# Altium footprint library BSPO.PcbLib: 178 footprints (part 8 of 12)
Each footprint in its own frame and in the unit in brackets; x right, y up, seen from the top. Pads: shape width x height; smd on the part's side, far side on the other; paste and mask are expansions set on the pad; w line width, h text height; cw(c..) or ccw(c..) is an arc to the next point about the centre after c.
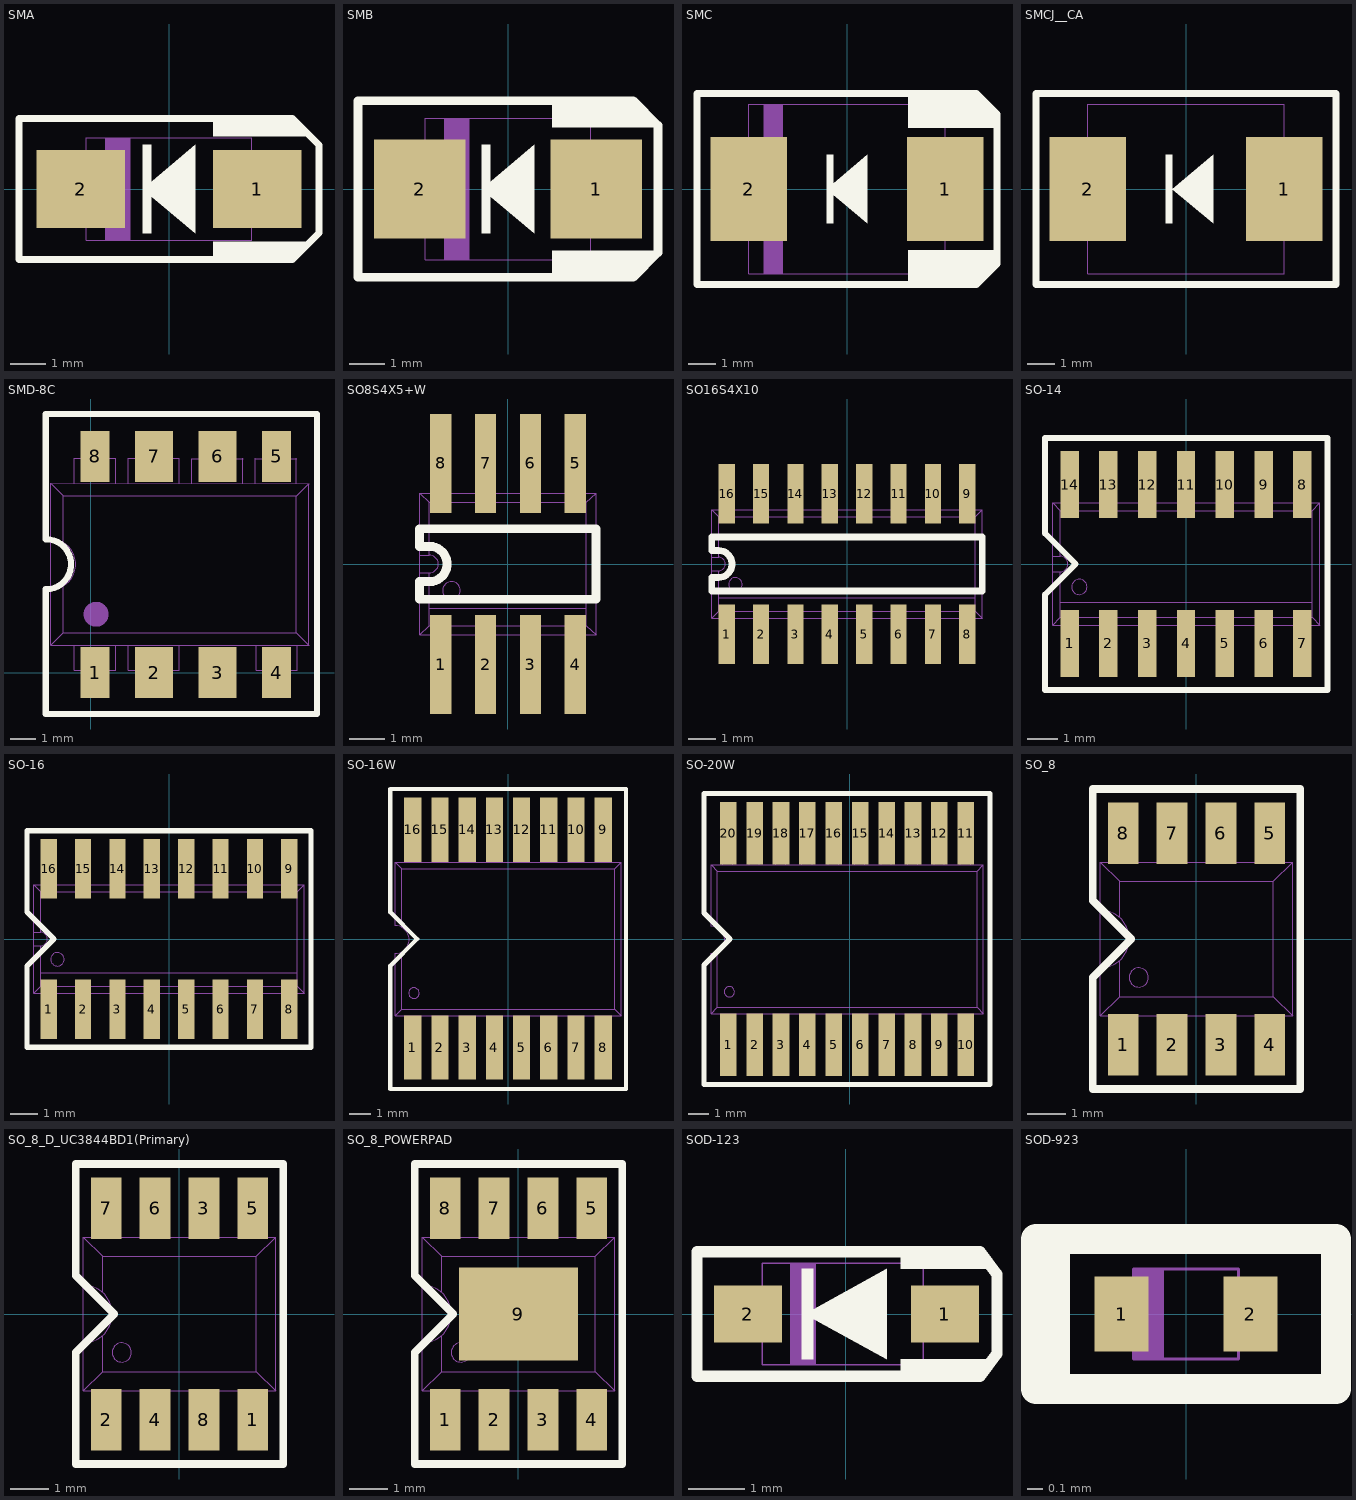
[diagram p7: the footprints below, top view; thin cyan lines are the x and y axes]

## SMA [mm]
pads (2):
  rect 2.5x2.2 smd: 1(2.5,0) 2(-2.5,0)
Top Overlay:
  region: -0.75,0 0.75,-1.25 0.75,1.25
  region: -0.75,1.25 -0.75,-1.25 -0.5,-1.25 -0.5,1.25
  region: 1.25,2 1.25,1.5 4,1.5 3.5,2
  region: 3.5,-2 4,-1.5 1.25,-1.5 1.25,-2
  lines w0.2: -4.25,-2 3.5,-2 4.25,-1.25 4.25,1.25 3.5,2 -4.25,2 -4.25,-2
Mechanical 1:
  region: -1.1,-1.45 -1.1,1.45 -1.8,1.45 -1.8,-1.45
  lines w0.025: -2.35,-0.8 -2.8,-0.8 -2.8,0.8 -2.35,0.8 ; 2.35,-0.8 2.8,-0.8 2.8,0.8 2.35,0.8 ; -2.35,-1.45 2.35,-1.45 2.35,1.45 -2.35,1.45 -2.35,-1.45

## SMB [mm]
pads (2):
  rect 2.6x2.8 smd: 1(2.5,0) 2(-2.5,0)
Top Overlay:
  region: -0.75,0 0.75,-1.25 0.75,1.25
  region: -0.75,1.25 -0.75,-1.25 -0.5,-1.25 -0.5,1.25
  region: 3.5,2.5 3.5,1.75 4.25,1.75
  region: 1.25,2.5 1.25,1.75 3.5,1.75 3.5,2.5
  region: 4.25,-1.75 3.5,-1.75 3.5,-2.5
  region: 3.5,-2.5 3.5,-1.75 1.25,-1.75 1.25,-2.5
  lines w0.25: -4.25,-2.5 3.55,-2.5 4.25,-1.8 4.25,1.8 3.55,2.5 -4.25,2.5 -4.25,-2.5
Mechanical 1:
  region: -1.1,-2 -1.1,2 -1.8,2 -1.8,-2
  lines w0.025: -2.35,-1.1 -2.8,-1.1 -2.8,1.1 -2.35,1.1 ; 2.35,-1.1 2.8,-1.1 2.8,1.1 2.35,1.1 ; -2.35,-2 2.35,-2 2.35,2 -2.35,2 -2.35,-2

## SMC [mm]
pads (2):
  rect 2.8x3.8 smd: 1(3.6,0) 2(-3.6,0)
Top Overlay:
  region: 2.25,-3.5 2.25,-2.25 5.5,-2.25 5.5,-2.75 4.75,-3.5
  region: 2.25,3.5 2.25,2.25 5.5,2.25 5.5,2.75 4.75,3.5
  region: 0.75,1.25 0.75,-1.25 -0.75,0
  region: -0.5,1.25 -0.5,-1.25 -0.75,-1.25 -0.75,1.25
  lines w0.25: -5.5,-3.5 4.75,-3.5 5.5,-2.75 5.5,2.75 4.75,3.5 -5.5,3.5 -5.5,-3.5
Mechanical 1:
  region: -3.05,-3.1 -3.05,3.1 -2.35,3.1 -2.35,-3.1
  lines w0.025: -3.6,-1.6 -4.05,-1.6 -4.05,1.6 -3.6,1.6 ; 3.6,-1.6 4.05,-1.6 4.05,1.6 3.6,1.6 ; -3.6,-3.1 3.6,-3.1 3.6,3.1 -3.6,3.1 -3.6,-3.1

## SMCJ__CA [mm]
pads (2):
  rect 2.8x3.8 smd: 1(3.6,0) 2(-3.6,0)
Top Overlay:
  region: 0.99,1.25 0.99,-1.25 -0.51,0
  region: -0.5,1.25 -0.5,-1.25 -0.75,-1.25 -0.75,1.25
  lines w0.25: -5.5,-3.5 5.5,-3.5 5.5,3.5 -5.5,3.5 -5.5,-3.5
Mechanical 1:
  lines w0.025: -3.6,-1.6 -4.05,-1.6 -4.05,1.6 -3.6,1.6 ; 3.6,-1.6 4.05,-1.6 4.05,1.6 3.6,1.6 ; -3.6,-3.1 3.6,-3.1 3.6,3.1 -3.6,3.1 -3.6,-3.1

## SMD-8C [mm]
pads (8):
  rect 1.16x2.03 smd: 1(0.18,0) 4(7.44,0) 5(7.44,8.64) 8(0.18,8.64)
  rect 1.52x2.03 smd: 2(2.54,0) 3(5.08,0) 6(5.08,8.64) 7(2.54,8.64)
Top Overlay:
  lines w0.25: -1.801,5.33 cw(c-1.785,4.33) -1.785,3.33 ; -1.8,3.34 -1.8,-1.66 9.05,-1.66 9.05,10.34 -1.8,10.34 -1.8,5.34
Mechanical 1:
  circle w0.5: c0.215,2.33 r0.25
  lines w0.025: -1.6,3.33 ccw(c-1.6,4.33) -1.6,5.33 ; -1.1,3.464 -1.1,1.595 ; -1.1,5.196 -1.1,7.065 ; -0.65,1.095 -0.65,0.098 1,0.098 1,1.095 ; -0.65,7.565 -0.65,8.562 ; -0.645,8.56 1.005,8.56 ; 1,7.565 1,8.562 ; 1.51,0.098 1.51,1.095 ; 1.51,0.1 3.54,0.098 3.54,1.095 ; 1.51,7.565 1.51,8.562 ; 1.51,8.56 3.53,8.56 ; 3.54,7.565 3.54,8.562 ; 4.04,7.565 4.04,8.55 6.095,8.55 ; 6.08,7.565 6.08,8.562 ; 6.575,8.55 8.245,8.55 ; 6.58,7.565 6.58,8.562 ; 6.62,1.095 6.62,0.098 8.27,0.098 8.27,1.095 ; 8.23,1.59 -1.1,1.595 ; 8.23,7.565 8.23,8.562 ; 8.24,7.06 -1.1,7.065 ; 8.74,1.1 -1.6,1.095 ; 8.74,7.55 -1.6,7.565 ; -1.6,1.095 -1.6,7.565 ; -1.6,1.095 -1.1,1.595 ; -1.6,7.565 -1.1,7.065 ; 8.23,1.585 8.23,7.055 8.73,7.555 8.73,1.085 8.23,1.585

## SO8S4X5+W [mm]
pads (8):
  rect 0.6x2.8 smd: 1(-1.9,-2.85) 2(-0.63,-2.85) 3(0.64,-2.85) 4(1.91,-2.85) 5(1.91,2.85) 6(0.64,2.85) 7(-0.63,2.85) 8(-1.9,2.85)
Top Overlay:
  lines w0.25: -2.5,-1 2.5,-1 2.5,1 -2.5,1 -2.5,0.5 -2.22,0.5 cw(c-2.22,0) -2.22,-0.5 -2.5,-0.5 -2.5,-1
Mechanical 1:
  circle w0.025: c-1.595,-0.75 r0.25
  lines w0.025: -2.5,-0.25 -2.22,-0.25 ; -2.5,0.25 -2.22,0.25 ; -2.22,-1.25 2.22,-1.25 ; -2.15,-2.35 -1.66,-2.35 ; -2.15,-2 -2.15,-3.1 -1.66,-3.1 -1.66,-2 ; -2.15,2 -2.15,3.1 -1.66,3.1 -1.66,2 ; -2.15,2.35 -1.66,2.35 ; -0.88,-2.35 -0.39,-2.35 ; -0.88,-2 -0.88,-3.1 -0.39,-3.1 -0.39,-2 ; -0.88,2 -0.88,3.1 -0.39,3.1 -0.39,2 ; -0.88,2.35 -0.39,2.35 ; 0.39,-2.35 0.88,-2.35 ; 0.39,-2 0.39,-3.1 0.88,-3.1 0.88,-2 ; 0.39,2 0.39,3.1 0.88,3.1 0.88,2 ; 0.39,2.35 0.88,2.35 ; 1.66,-2.35 2.15,-2.35 ; 1.66,-2 1.66,-3.1 2.15,-3.1 2.15,-2 ; 1.66,2 1.66,3.1 2.15,3.1 2.15,2 ; 1.66,2.35 2.15,2.35 ; -2.5,-2 2.5,-2 ; -2.5,-2 -2.5,2 ; -2.5,-2 -2.22,-1.75 ; -2.5,2 2.5,2 ; -2.5,2 -2.22,1.75 ; -2.5,2 -2.22,1.75 ; -2.22,-1.75 2.22,-1.75 ; -2.22,-1.75 -2.22,-0.25 ; -2.22,-0.25 ccw(c-2.22,0) -2.22,0.25 ; -2.22,0.25 -2.22,1.75 ; -2.22,1.75 2.22,1.75 ; 2.22,-1.75 2.22,1.75 ; 2.22,-1.75 2.5,-2 ; 2.22,1.75 2.5,2 ; 2.5,-2 2.5,2

## SO16S4X10 [mm]
pads (16):
  rect 0.6x2.2 smd: 1(-4.445,-2.6) 2(-3.175,-2.6) 3(-1.905,-2.6) 4(-0.635,-2.6) 5(0.635,-2.6) 6(1.905,-2.6) 7(3.175,-2.6) 8(4.445,-2.6) 9(4.445,2.6) 10(3.175,2.6) 11(1.905,2.6) 12(0.635,2.6) 13(-0.635,2.6) 14(-1.905,2.6) 15(-3.175,2.6) 16(-4.445,2.6)
Top Overlay:
  lines w0.25: -5,-1 5,-1 5,1 -5,1 -5,0.5 -4.75,0.5 cw(c-4.75,0) -4.75,-0.5 -5,-0.5 -5,-1
Mechanical 1:
  circle w0.025: c-4.125,-0.75 r0.25
  lines w0.025: -5,-0.25 -4.75,-0.25 ; -5,0.25 -4.75,0.25 ; -4.75,-1.25 4.75,-1.25 ; -4.69,-2.35 -4.2,-2.35 ; -4.69,-2 -4.69,-3.1 -4.2,-3.1 -4.2,-2 ; -4.69,2 -4.69,3.1 -4.2,3.1 -4.2,2 ; -4.69,2.35 -4.2,2.35 ; -3.42,-2.35 -2.93,-2.35 ; -3.42,-2 -3.42,-3.1 -2.93,-3.1 -2.93,-2 ; -3.42,2 -3.42,3.1 -2.93,3.1 -2.93,2 ; -3.42,2.35 -2.93,2.35 ; -2.15,-2.35 -1.66,-2.35 ; -2.15,-2 -2.15,-3.1 -1.66,-3.1 -1.66,-2 ; -2.15,2 -2.15,3.1 -1.66,3.1 -1.66,2 ; -2.15,2.35 -1.66,2.35 ; -0.88,-2.35 -0.39,-2.35 ; -0.88,-2 -0.88,-3.1 -0.39,-3.1 -0.39,-2 ; -0.88,2 -0.88,3.1 -0.39,3.1 -0.39,2 ; -0.88,2.35 -0.39,2.35 ; 0.39,-2.35 0.88,-2.35 ; 0.39,-2 0.39,-3.1 0.88,-3.1 0.88,-2 ; 0.39,2 0.39,3.1 0.88,3.1 0.88,2 ; 0.39,2.35 0.88,2.35 ; 1.66,-2.35 2.15,-2.35 ; 1.66,-2 1.66,-3.1 2.15,-3.1 2.15,-2 ; 1.66,2 1.66,3.1 2.15,3.1 2.15,2 ; 1.66,2.35 2.15,2.35 ; 2.93,-2.35 3.42,-2.35 ; 2.93,-2 2.93,-3.1 3.42,-3.1 3.42,-2 ; 2.93,2 2.93,3.1 3.42,3.1 3.42,2 ; 2.93,2.35 3.42,2.35 ; 4.2,-2.35 4.69,-2.35 ; 4.2,-2 4.2,-3.1 4.69,-3.1 4.69,-2 ; 4.2,2 4.2,3.1 4.69,3.1 4.69,2 ; 4.2,2.35 4.69,2.35 ; -5,-2 5,-2 ; -5,-2 -5,2 ; -5,-2 -4.75,-1.75 ; -5,2 5,2 ; -5,2 -4.75,1.75 ; -5,2 -4.75,1.75 ; -4.75,-1.75 4.75,-1.75 ; -4.75,-1.75 -4.75,-0.25 ; -4.75,-0.25 ccw(c-4.75,0) -4.75,0.25 ; -4.75,0.25 -4.75,1.75 ; -4.75,1.75 4.75,1.75 ; 4.75,-1.75 4.75,1.75 ; 4.75,-1.75 5,-2 ; 4.75,1.75 5,2 ; 5,-2 5,2

## SO-14 [mm]
pads (14):
  rect 0.6x2.2 smd: 1(-3.82,-2.6) 2(-2.55,-2.6) 3(-1.28,-2.6) 4(-0.01,-2.6) 5(1.26,-2.6) 6(2.53,-2.6) 7(3.8,-2.6) 8(3.8,2.6) 9(2.53,2.6) 10(1.26,2.6) 11(-0.01,2.6) 12(-1.28,2.6) 13(-2.55,2.6) 14(-3.82,2.6)
Top Overlay:
  lines w0.2: -4.625,-4.125 4.625,-4.125 4.625,4.125 -4.625,4.125 -4.625,1 -3.625,0 -4.625,-1 -4.625,-4.125
Mechanical 1:
  circle w0.025: c-3.5,-0.75 r0.25
  lines w0.025: -4.375,-0.25 -4.125,-0.25 ; -4.375,0.25 -4.125,0.25 ; -4.125,-1.25 4.125,-1.25 ; -4.065,-2.35 -3.575,-2.35 ; -4.065,-2 -4.065,-3.1 -3.575,-3.1 -3.575,-2 ; -4.065,2 -4.065,3.1 -3.575,3.1 -3.575,2 ; -4.065,2.35 -3.575,2.35 ; -2.795,-2.35 -2.305,-2.35 ; -2.795,-2 -2.795,-3.1 -2.305,-3.1 -2.305,-2 ; -2.795,2 -2.795,3.1 -2.305,3.1 -2.305,2 ; -2.795,2.35 -2.305,2.35 ; -1.525,-2.35 -1.035,-2.35 ; -1.525,-2 -1.525,-3.1 -1.035,-3.1 -1.035,-2 ; -1.525,2 -1.525,3.1 -1.035,3.1 -1.035,2 ; -1.525,2.35 -1.035,2.35 ; -0.255,-2.35 0.235,-2.35 ; -0.255,-2 -0.255,-3.1 0.235,-3.1 0.235,-2 ; -0.255,2 -0.255,3.1 0.235,3.1 0.235,2 ; -0.255,2.35 0.235,2.35 ; 1.015,-2.35 1.505,-2.35 ; 1.015,-2 1.015,-3.1 1.505,-3.1 1.505,-2 ; 1.015,2 1.015,3.1 1.505,3.1 1.505,2 ; 1.015,2.35 1.505,2.35 ; 2.285,-2.35 2.775,-2.35 ; 2.285,-2 2.285,-3.1 2.775,-3.1 2.775,-2 ; 2.285,2 2.285,3.1 2.775,3.1 2.775,2 ; 2.285,2.35 2.775,2.35 ; 3.555,-2.35 4.045,-2.35 ; 3.555,-2 3.555,-3.1 4.045,-3.1 4.045,-2 ; 3.555,2 3.555,3.1 4.045,3.1 4.045,2 ; 3.555,2.35 4.045,2.35 ; -4.375,-2 4.375,-2 ; -4.375,-2 -4.375,2 ; -4.375,-2 -4.125,-1.75 ; -4.375,2 4.375,2 ; -4.375,2 -4.125,1.75 ; -4.375,2 -4.125,1.75 ; -4.125,-1.75 4.125,-1.75 ; -4.125,-1.75 -4.125,-0.25 ; -4.125,-0.25 ccw(c-4.125,0) -4.125,0.25 ; -4.125,0.25 -4.125,1.75 ; -4.125,1.75 4.125,1.75 ; 4.125,-1.75 4.125,1.75 ; 4.125,-1.75 4.375,-2 ; 4.125,1.75 4.375,2 ; 4.375,-2 4.375,2

## SO-16 [mm]
pads (16):
  rect 0.6x2.2 smd: 1(-4.445,-2.6) 2(-3.175,-2.6) 3(-1.905,-2.6) 4(-0.635,-2.6) 5(0.635,-2.6) 6(1.905,-2.6) 7(3.175,-2.6) 8(4.445,-2.6) 9(4.445,2.6) 10(3.175,2.6) 11(1.905,2.6) 12(0.635,2.6) 13(-0.635,2.6) 14(-1.905,2.6) 15(-3.175,2.6) 16(-4.445,2.6)
Top Overlay:
  lines w0.2: -5.25,-4 5.25,-4 5.25,4 -5.25,4 -5.25,1 -4.25,0 -5.25,-1 -5.25,-4
Mechanical 1:
  circle w0.025: c-4.125,-0.75 r0.25
  lines w0.025: -5,-0.25 -4.75,-0.25 ; -5,0.25 -4.75,0.25 ; -4.75,-1.25 4.75,-1.25 ; -4.69,-2.35 -4.2,-2.35 ; -4.69,-2 -4.69,-3.1 -4.2,-3.1 -4.2,-2 ; -4.69,2 -4.69,3.1 -4.2,3.1 -4.2,2 ; -4.69,2.35 -4.2,2.35 ; -3.42,-2.35 -2.93,-2.35 ; -3.42,-2 -3.42,-3.1 -2.93,-3.1 -2.93,-2 ; -3.42,2 -3.42,3.1 -2.93,3.1 -2.93,2 ; -3.42,2.35 -2.93,2.35 ; -2.15,-2.35 -1.66,-2.35 ; -2.15,-2 -2.15,-3.1 -1.66,-3.1 -1.66,-2 ; -2.15,2 -2.15,3.1 -1.66,3.1 -1.66,2 ; -2.15,2.35 -1.66,2.35 ; -0.88,-2.35 -0.39,-2.35 ; -0.88,-2 -0.88,-3.1 -0.39,-3.1 -0.39,-2 ; -0.88,2 -0.88,3.1 -0.39,3.1 -0.39,2 ; -0.88,2.35 -0.39,2.35 ; 0.39,-2.35 0.88,-2.35 ; 0.39,-2 0.39,-3.1 0.88,-3.1 0.88,-2 ; 0.39,2 0.39,3.1 0.88,3.1 0.88,2 ; 0.39,2.35 0.88,2.35 ; 1.66,-2.35 2.15,-2.35 ; 1.66,-2 1.66,-3.1 2.15,-3.1 2.15,-2 ; 1.66,2 1.66,3.1 2.15,3.1 2.15,2 ; 1.66,2.35 2.15,2.35 ; 2.93,-2.35 3.42,-2.35 ; 2.93,-2 2.93,-3.1 3.42,-3.1 3.42,-2 ; 2.93,2 2.93,3.1 3.42,3.1 3.42,2 ; 2.93,2.35 3.42,2.35 ; 4.2,-2.35 4.69,-2.35 ; 4.2,-2 4.2,-3.1 4.69,-3.1 4.69,-2 ; 4.2,2 4.2,3.1 4.69,3.1 4.69,2 ; 4.2,2.35 4.69,2.35 ; -5,-2 5,-2 ; -5,-2 -5,2 ; -5,-2 -4.75,-1.75 ; -5,2 5,2 ; -5,2 -4.75,1.75 ; -5,2 -4.75,1.75 ; -4.75,-1.75 4.75,-1.75 ; -4.75,-1.75 -4.75,-0.25 ; -4.75,-0.25 ccw(c-4.75,0) -4.75,0.25 ; -4.75,0.25 -4.75,1.75 ; -4.75,1.75 4.75,1.75 ; 4.75,-1.75 4.75,1.75 ; 4.75,-1.75 5,-2 ; 4.75,1.75 5,2 ; 5,-2 5,2

## SO-16W [mm]
pads (16):
  rect 0.8x3 smd: 1(-4.455,-5.065) 2(-3.185,-5.065) 3(-1.915,-5.065) 4(-0.645,-5.065) 5(0.625,-5.065) 6(1.895,-5.065) 7(3.165,-5.065) 8(4.435,-5.065) 9(4.435,5.095) 10(3.165,5.095) 11(1.895,5.095) 12(0.625,5.095) 13(-0.645,5.095) 14(-1.915,5.095) 15(-3.185,5.095) 16(-4.455,5.095)
Top Overlay:
  lines w0.2: -5.5,-7 5.5,-7 5.5,7 -5.5,7 -5.5,1.25 -4.25,0 -5.5,-1.25 -5.5,-7
Mechanical 1:
  circle w0.025: c-4.4,-2.525 r0.25
  lines w0.025: -4.975,-0.625 -4.975,-3.275 ; -4.975,0.575 -4.975,3.275 ; -4.715,-3.925 -4.225,-3.925 ; -4.715,-3.575 -4.715,-4.675 -4.225,-4.675 -4.225,-3.575 ; -4.715,3.575 -4.715,4.675 -4.225,4.675 -4.225,3.575 ; -4.715,3.925 -4.225,3.925 ; -3.445,-3.925 -2.955,-3.925 ; -3.445,-3.575 -3.445,-4.675 -2.955,-4.675 -2.955,-3.575 ; -3.445,3.575 -3.445,4.675 -2.955,4.675 -2.955,3.575 ; -3.445,3.925 -2.955,3.925 ; -2.175,-3.925 -1.685,-3.925 ; -2.175,-3.575 -2.175,-4.675 -1.685,-4.675 -1.685,-3.575 ; -2.175,3.575 -2.175,4.675 -1.685,4.675 -1.685,3.575 ; -2.175,3.925 -1.685,3.925 ; -0.905,-3.925 -0.415,-3.925 ; -0.905,-3.575 -0.905,-4.675 -0.415,-4.675 -0.415,-3.575 ; -0.905,3.575 -0.905,4.675 -0.415,4.675 -0.415,3.575 ; -0.905,3.925 -0.415,3.925 ; 0.365,-3.925 0.855,-3.925 ; 0.365,-3.575 0.365,-4.675 0.855,-4.675 0.855,-3.575 ; 0.365,3.575 0.365,4.675 0.855,4.675 0.855,3.575 ; 0.365,3.925 0.855,3.925 ; 1.635,-3.925 2.125,-3.925 ; 1.635,-3.575 1.635,-4.675 2.125,-4.675 2.125,-3.575 ; 1.635,3.575 1.635,4.675 2.125,4.675 2.125,3.575 ; 1.635,3.925 2.125,3.925 ; 2.905,-3.925 3.395,-3.925 ; 2.905,-3.575 2.905,-4.675 3.395,-4.675 3.395,-3.575 ; 2.905,3.575 2.905,4.675 3.395,4.675 3.395,3.575 ; 2.905,3.925 3.395,3.925 ; 4.175,-3.925 4.665,-3.925 ; 4.175,-3.575 4.175,-4.675 4.665,-4.675 4.665,-3.575 ; 4.175,3.575 4.175,4.675 4.665,4.675 4.665,3.575 ; 4.175,3.925 4.665,3.925 ; -5.275,-3.575 5.275,-3.575 ; -5.275,-3.575 -5.275,-0.675 ccw(c-5.275,-0.025) -5.275,0.625 -5.275,3.575 ; -5.275,-3.575 -4.975,-3.275 ; -5.275,3.575 5.275,3.575 ; -5.275,3.575 -4.975,3.275 ; -4.975,-3.275 4.975,-3.275 ; -4.975,3.275 4.975,3.275 ; 4.975,-3.275 4.975,3.275 ; 4.975,-3.275 5.275,-3.575 ; 4.975,3.275 5.275,3.575 ; 5.275,-3.575 5.275,3.575

## SO-20W [mm]
pads (20):
  rect 0.8x3 smd: 1(-5.842,-5.08) 2(-4.572,-5.08) 3(-3.302,-5.08) 4(-2.032,-5.08) 5(-0.762,-5.08) 6(0.508,-5.08) 7(1.778,-5.08) 8(3.048,-5.08) 9(4.318,-5.08) 10(5.588,-5.08) 11(5.588,5.08) 12(4.318,5.08) 13(3.048,5.08) 14(1.778,5.08) 15(0.508,5.08) 16(-0.762,5.08) 17(-2.032,5.08) 18(-3.302,5.08) 19(-4.572,5.08) 20(-5.842,5.08)
Top Overlay:
  lines w0.25: 6.738,7 -7,7 -7,1.25 -5.75,0 -7,-1.25 -7,-7 6.75,-7 6.75,7
Mechanical 1:
  circle w0.025: c-5.787,-2.54 r0.25
  lines w0.025: -6.362,-0.64 -6.362,-3.29 ; -6.362,0.56 -6.362,3.26 ; -6.102,-3.94 -5.612,-3.94 ; -6.102,-3.59 -6.102,-4.69 -5.612,-4.69 -5.612,-3.59 ; -6.102,3.56 -6.102,4.66 -5.612,4.66 -5.612,3.56 ; -6.102,3.91 -5.612,3.91 ; -4.832,-3.94 -4.342,-3.94 ; -4.832,-3.59 -4.832,-4.69 -4.342,-4.69 -4.342,-3.59 ; -4.832,3.56 -4.832,4.66 -4.342,4.66 -4.342,3.56 ; -4.832,3.91 -4.342,3.91 ; -3.562,-3.94 -3.072,-3.94 ; -3.562,-3.59 -3.562,-4.69 -3.072,-4.69 -3.072,-3.59 ; -3.562,3.56 -3.562,4.66 -3.072,4.66 -3.072,3.56 ; -3.562,3.91 -3.072,3.91 ; -2.292,-3.94 -1.802,-3.94 ; -2.292,-3.59 -2.292,-4.69 -1.802,-4.69 -1.802,-3.59 ; -2.292,3.56 -2.292,4.66 -1.802,4.66 -1.802,3.56 ; -2.292,3.91 -1.802,3.91 ; -1.022,-3.94 -0.532,-3.94 ; -1.022,-3.59 -1.022,-4.69 -0.532,-4.69 -0.532,-3.59 ; -1.022,3.56 -1.022,4.66 -0.532,4.66 -0.532,3.56 ; -1.022,3.91 -0.532,3.91 ; 0.248,-3.94 0.738,-3.94 ; 0.248,-3.59 0.248,-4.69 0.738,-4.69 0.738,-3.59 ; 0.248,3.56 0.248,4.66 0.738,4.66 0.738,3.56 ; 0.248,3.91 0.738,3.91 ; 1.518,-3.94 2.008,-3.94 ; 1.518,-3.59 1.518,-4.69 2.008,-4.69 2.008,-3.59 ; 1.518,3.56 1.518,4.66 2.008,4.66 2.008,3.56 ; 1.518,3.91 2.008,3.91 ; 2.788,-3.94 3.278,-3.94 ; 2.788,-3.59 2.788,-4.69 3.278,-4.69 3.278,-3.59 ; 2.788,3.56 2.788,4.66 3.278,4.66 3.278,3.56 ; 2.788,3.91 3.278,3.91 ; 4.058,-3.94 4.548,-3.94 ; 4.058,-3.59 4.058,-4.69 4.548,-4.69 4.548,-3.59 ; 4.058,3.56 4.058,4.66 4.548,4.66 4.548,3.56 ; 4.058,3.91 4.548,3.91 ; 5.328,-3.94 5.818,-3.94 ; 5.328,-3.59 5.328,-4.69 5.818,-4.69 5.818,-3.59 ; 5.328,3.56 5.328,4.66 5.818,4.66 5.818,3.56 ; 5.328,3.91 5.818,3.91 ; -6.662,-3.59 6.428,-3.59 ; -6.662,-3.59 -6.662,-0.69 ccw(c-6.662,-0.04) -6.662,0.61 -6.662,3.56 ; -6.662,-3.59 -6.362,-3.29 ; -6.662,3.56 6.428,3.56 ; -6.662,3.56 -6.362,3.26 ; -6.362,-3.29 -6.312,-3.29 6.128,-3.29 ; -6.362,3.26 6.128,3.26 ; 6.128,-3.29 6.128,3.26 ; 6.128,-3.29 6.428,-3.59 ; 6.128,3.26 6.428,3.56 ; 6.428,-3.59 6.428,3.56

## SO_8 [mm]
pads (8):
  rect 0.8x1.6 smd: 1(-1.905,-2.75) 2(-0.635,-2.75) 3(0.635,-2.75) 4(1.905,-2.75) 5(1.905,2.75) 6(0.635,2.75) 7(-0.635,2.75) 8(-1.905,2.75)
Top Overlay:
  lines w0.2: -2.7,-3.9 2.7,-3.9 2.7,3.9 -2.7,3.9 -2.7,1 -1.7,0 -2.7,-1 -2.7,-3.9
Mechanical 1:
  circle w0.02: c-1.5,-1 r0.25
  lines w0.02: -2.5,-0.75 ccw(c-2.5,0) -2.5,0.75 ; -2.16,2.35 -1.65,2.35 ; -2,-0.559 -2,-1.5 ; -2,0.559 -2,1.5 ; -0.89,2.35 -0.38,2.35 ; 0.38,2.35 0.89,2.35 ; 1.65,2.35 2.16,2.35 ; -2.5,-2 2.5,-2 ; -2.5,-2 -2.5,2 ; -2.5,-2 -2,-1.5 ; -2.5,2 2.5,2 ; -2.5,2 -2,1.5 ; -2,-1.5 2,-1.5 ; -2,1.5 2,1.5 ; 2,-1.5 2,1.5 ; 2,-1.5 2.5,-2 ; 2,1.5 2.5,2 ; 2.5,-2 2.5,2
  lines w0.025: -2.16,-2.35 -1.65,-2.35 ; -2.16,-2 -2.16,-3.1 -1.65,-3.1 -1.65,-2 ; -2.16,2 -2.16,3.1 -1.65,3.1 -1.65,2 ; -0.89,-2.35 -0.38,-2.35 ; -0.89,-2 -0.89,-3.1 -0.38,-3.1 -0.38,-2 ; -0.89,2 -0.89,3.1 -0.38,3.1 -0.38,2 ; 0.38,-2.35 0.89,-2.35 ; 0.38,-2 0.38,-3.1 0.89,-3.1 0.89,-2 ; 0.38,2 0.38,3.1 0.89,3.1 0.89,2 ; 1.65,-2.35 2.16,-2.35 ; 1.65,-2 1.65,-3.1 2.16,-3.1 2.16,-2 ; 1.65,2 1.65,3.1 2.16,3.1 2.16,2

## SO_8_D_UC3844BD1(Primary) [mm]
pads (8):
  rect 0.8x1.6 smd: 1(1.905,-2.75) 2(-1.905,-2.75) 3(0.635,2.75) 4(-0.635,-2.75) 5(1.905,2.75) 6(-0.635,2.75) 7(-1.905,2.75) 8(0.635,-2.75)
Top Overlay:
  lines w0.2: -2.7,-3.9 2.7,-3.9 2.7,3.9 -2.7,3.9 -2.7,1 -1.7,0 -2.7,-1 -2.7,-3.9
Mechanical 1:
  circle w0.02: c-1.5,-1 r0.25
  lines w0.02: -2.5,-0.75 ccw(c-2.5,0) -2.5,0.75 ; -2.16,2.35 -1.65,2.35 ; -2,-0.559 -2,-1.5 ; -2,0.559 -2,1.5 ; -0.89,2.35 -0.38,2.35 ; 0.38,2.35 0.89,2.35 ; 1.65,2.35 2.16,2.35 ; -2.5,-2 2.5,-2 ; -2.5,-2 -2.5,2 ; -2.5,-2 -2,-1.5 ; -2.5,2 2.5,2 ; -2.5,2 -2,1.5 ; -2,-1.5 2,-1.5 ; -2,1.5 2,1.5 ; 2,-1.5 2,1.5 ; 2,-1.5 2.5,-2 ; 2,1.5 2.5,2 ; 2.5,-2 2.5,2
  lines w0.025: -2.16,-2.35 -1.65,-2.35 ; -2.16,-2 -2.16,-3.1 -1.65,-3.1 -1.65,-2 ; -2.16,2 -2.16,3.1 -1.65,3.1 -1.65,2 ; -0.89,-2.35 -0.38,-2.35 ; -0.89,-2 -0.89,-3.1 -0.38,-3.1 -0.38,-2 ; -0.89,2 -0.89,3.1 -0.38,3.1 -0.38,2 ; 0.38,-2.35 0.89,-2.35 ; 0.38,-2 0.38,-3.1 0.89,-3.1 0.89,-2 ; 0.38,2 0.38,3.1 0.89,3.1 0.89,2 ; 1.65,-2.35 2.16,-2.35 ; 1.65,-2 1.65,-3.1 2.16,-3.1 2.16,-2 ; 1.65,2 1.65,3.1 2.16,3.1 2.16,2

## SO_8_POWERPAD [mm]
pads (9):
  rect 0.8x1.6 smd: 1(-1.905,-2.75) 2(-0.635,-2.75) 3(0.635,-2.75) 4(1.905,-2.75) 5(1.905,2.75) 6(0.635,2.75) 7(-0.635,2.75) 8(-1.905,2.75)
  rect 3.1x2.41 smd: 9(0,0)
Top Overlay:
  lines w0.2: -2.7,-3.9 2.7,-3.9 2.7,3.9 -2.7,3.9 -2.7,1 -1.7,0 -2.7,-1 -2.7,-3.9
Mechanical 1:
  circle w0.02: c-1.5,-1 r0.25
  lines w0.025: -2.5,-0.75 ccw(c-2.5,0) -2.5,0.75 ; -2.16,-2.35 -1.65,-2.35 ; -2.16,-2 -2.16,-3.1 -1.65,-3.1 -1.65,-2 ; -2.16,2 -2.16,3.1 -1.65,3.1 -1.65,2 ; -2.16,2.35 -1.65,2.35 ; -2,-0.559 -2,-1.5 ; -2,0.559 -2,1.5 ; -0.89,-2.35 -0.38,-2.35 ; -0.89,-2 -0.89,-3.1 -0.38,-3.1 -0.38,-2 ; -0.89,2 -0.89,3.1 -0.38,3.1 -0.38,2 ; -0.89,2.35 -0.38,2.35 ; 0.38,-2.35 0.89,-2.35 ; 0.38,-2 0.38,-3.1 0.89,-3.1 0.89,-2 ; 0.38,2 0.38,3.1 0.89,3.1 0.89,2 ; 0.38,2.35 0.89,2.35 ; 1.65,-2.35 2.16,-2.35 ; 1.65,-2 1.65,-3.1 2.16,-3.1 2.16,-2 ; 1.65,2 1.65,3.1 2.16,3.1 2.16,2 ; 1.65,2.35 2.16,2.35 ; -2.5,-2 2.5,-2 ; -2.5,-2 -2.5,2 ; -2.5,-2 -2,-1.5 ; -2.5,2 2.5,2 ; -2.5,2 -2,1.5 ; -2,-1.5 2,-1.5 ; -2,1.5 2,1.5 ; 2,-1.5 2,1.5 ; 2,-1.5 2.5,-2 ; 2,1.5 2.5,2 ; 2.5,-2 2.5,2

## SOD-123 [mm]
pads (2):
  rect 1.2x1 smd: 1(1.75,0) 2(-1.73,0)
Top Overlay:
  region: -0.73,0 0.72,-0.8 0.72,0.8
  region: 0.97,1.2 0.97,0.9 0.97,0.8 2.07,0.8 2.57,0.8 2.27,1.2
  region: 2.27,-1.2 2.57,-0.8 2.07,-0.8 0.97,-0.8 0.97,-0.9 0.97,-1.2
  region: -0.78,0.8 -0.78,-0.8 -0.58,-0.8 -0.58,0.8
  lines w0.2: -2.63,-1.1 2.37,-1.1 2.67,-0.7 2.67,0.7 2.37,1.1 -2.63,1.1 -2.63,-1.1
Mechanical 1:
  region: -0.53,-0.9 -0.53,0.9 -0.98,0.9 -0.98,-0.9
  lines w0.025: -1.48,-0.9 1.37,-0.9 1.37,0.9 -1.48,0.9 -1.48,-0.9

## SOD-923 [mm]
pads (2):
  rect 0.36x0.5 smd: 1(-0.43,0) 2(0.43,0)
Top Overlay:
  lines w0.2: -0.875,-0.5 -0.875,0.5 ; -1,-0.5 1,-0.5 1,0.5 -1,0.5 -1,-0.5
Mechanical 1:
  region: -0.15,-0.3 -0.15,0.3 -0.35,0.3 -0.35,-0.3
  lines w0.02: -0.35,-0.11 -0.5,-0.11 -0.5,0.11 -0.35,0.11 ; 0.35,-0.11 0.5,-0.11 0.5,0.11 0.35,0.11 ; -0.35,-0.3 0.35,-0.3 0.35,0.3 -0.35,0.3 -0.35,-0.3